# Altium schematic symbol library MyLibraryV2.SchLib: 572 symbols (part 9 of 11)
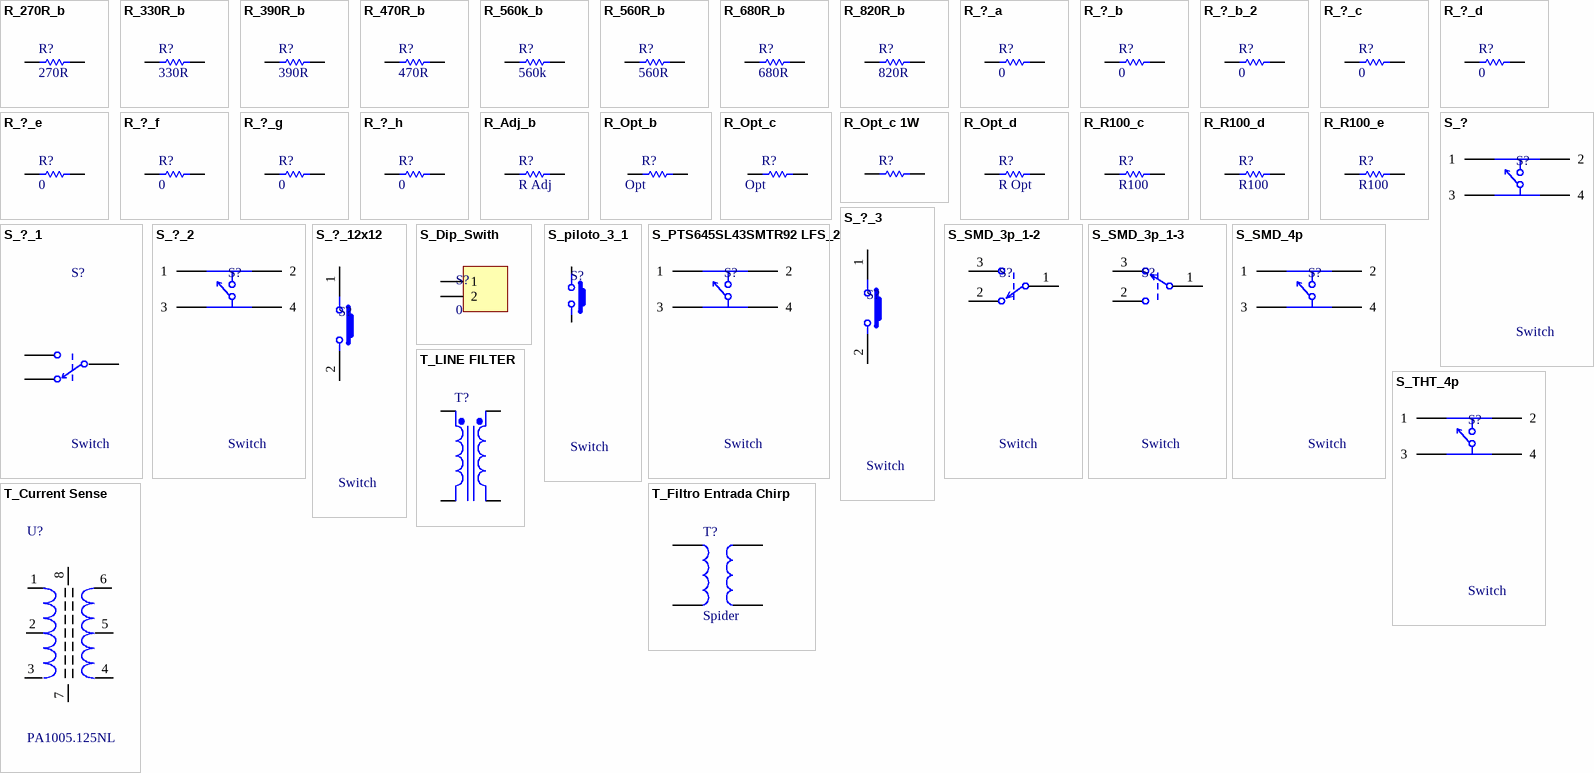
[diagram p24: symbols R_270R_b to T_LINE FILTER]

## R_?_b_2
designator R?, comment 0
(Generico)  Resistor SMD 0805; Value: 0
footprint R_0805_2012_a (Chip Resistor; Body 2.0 x 1.3 mm (LxW typ))
pins: 1, 2

## R_?_c
designator R?, comment 0
(Generico)  Resistor SMD 1206; Value: 0
footprint R_1206_3216_a
pins: 1, 2

## R_?_d
designator R?, comment 0
(Generico)  Resistor SMD 2512; Value: 0
footprint R_2512_6432_a
pins: 1, 2

## R_?_e
designator R?, comment 0
(Generico) Resistor SMD 2616; Value: 0
footprint R_2616_6740_a (Chip Resistor; Body 2.0 x 1.3 mm (LxW typ))
pins: 1, 2

## R_?_f
designator R?, comment 0
(Generico) Resistor AXIAL ASRM; Value: 0
footprint R_ASRM2
pins: 1, 2

## R_?_g
designator R?, comment 0
(Generico) Resistor SMD 2010; Value: 0
footprint R_2010_5025_a
pins: 1, 2

## R_?_h
designator R?, comment 0
Resistor SMD Trimmer; Value: 0
footprint R_Trimmer SMD
pins: 1, 2

## R_Adj_b
designator R?, comment R Adj
(Generico)  Resistor SMD 0805; Value: R Adj
footprint R_0805_2012_a (Chip Resistor; Body 2.0 x 1.3 mm (LxW typ))
pins: 1, 2

## R_Opt_b
designator R?, comment Opt
(Generico) Resistor SMD 0805; Value: Opt
footprint R_0805_2012_a (Chip Resistor; Body 2.0 x 1.3 mm (LxW typ))
pins: 1, 2

## R_Opt_c
designator R?, comment Opt
(Generico) Resistor SMD 1206; Value: Opt
footprint 3216[1206]
pins: 1, 2

## R_Opt_c 1W
designator R?, comment Opt 1W  (value not drawn)
(Generico) Resistor SMD; Value: Opt 1W
footprint 6432[2512]
pins: 1, 2

## R_Opt_d
designator R?, comment R Opt
Resistor SMD 2512 opcional; Value: R Opt
footprint R_2512_6432_a
pins: 1, 2

## R_R100_c
designator R?, comment R100
Resistor SMD 1206; Manufacturer: Eaton; Manufacturer Part Number: MFHA1206R1000FC; Supplier 1: Mouser; Supplier Part Number 1: 504-MFHA1206R1000FC; RoHS: No; Stock 1: 4353; Pricing 1: 1=0,12, 10=0,106, 50=0,106, 100=0,088, 1000=0,062, 10000=0,043 (USD); Value: R100
footprint R_1206_3216_a
pins: 1, 2

## R_R100_d
designator R?, comment R100
Resistor SMD 2512; Value: R100
footprint R_2512_6432_a
pins: 1, 2

## R_R100_e
designator R?, comment R100
Resistor SMD 2616; Manufacturer: TE Connectivity; Manufacturer Part Number: SMW2R10JT; Tolerance: 5%; Power Rating: 2W; Temperature Coefficient: 200ppm/°C; Voltage Rating: 300V; Insulation Resistance: 10GR; Number of Resistors: 1; Mounting Technology: Surface Mount; Case/Package: SMD/SMT; Case Code (Imperial): 2616; Case Code (Metric): 6740; Min Operating Temperature: -80°C; Max Operating Temperature: 280°C; Packaging: Tape and Reel; Resistor Type: Power resistor; Termination: Solder; Number of Terminations: 2; Series: SMW, CGS; Resistance Tolerance: 5%; Technology: WIRE WOUND; Features: Flame Retardant Coating; Max Power Dissipation: 2W; Operating Supply Voltage: 300V; Voltage Rating (AC): 300V; Length: 6.7mm; Width: 4mm; Height: 3.55mm; Depth: 4mm; Radiation Hardening: 5898YesNo; RoHS Compliant: Yes; Reach SVHC Compliant: No; ELV: Compliant; Military Standard: 4991MilitaryStandard; ComponentLink1URL: https://datasheet.ciiva.com/11812/0900766b809bea20-11812734.pdf?src-supplier=Rs; ComponentLink1Description: https://datasheet.ciiva.com/11812/0900766b809bea20-11812734.pdf?src-supplier=Rs; ComponentLink2URL: https://datasheet.ciiva.com/14090/wysm-data-e-14090891.pdf?src-supplier=Distrelec; ComponentLink2Description: https://datasheet.ciiva.com/14090/wysm-data-e-14090891.pdf?src-supplier=Distrelec; Supplier 1: Digikey; Supplier Part Number 1: A103604CT-ND; RoHS: Yes; Category: Chip SMD Resistors; Stock 1: 1522; Pricing 1: 1=0,58, 10=0,456, 25=0,4124, 50=0,371, 100=0,3064, 250=0,2886, 500=0,23362, 1000=0,18895 (USD); Value: R100
footprint R_2616_6740_a (Chip Resistor; Body 2.0 x 1.3 mm (LxW typ))
pins: 1, 2

## S_?
designator S?, comment Switch
(Generico) Switch THT; Value: Switch
footprint S_THT_4P
pins: 1, 2, 3, 4

## S_?_1
designator S?, comment Switch
(Generico) Switch  SMD; Value: Switch
footprint S_SMD_3p (2.0 x 1.3 mm (LxW typ))
pins: 1, 2, 3

## S_?_2
designator S?, comment Switch
(Generico) Switch SMD; Value: Switch
footprint S_SMD_SPST-NO (Pulsador SMD)
pins: 1, 2, 3, 4

## S_?_3
designator S?, comment Switch
(Generico) Switch SMD; Value: Switch
footprint S_SMD_SPST-NO (Pulsador SMD)
pins: 1, 2

## S_?_12x12
designator S?, comment Switch
(Generico) Switch SMD de 12mm x 12 mm; Value: Switch; Supplier 1: Digikey; Supplier Part Number 1: SW969-ND
footprint S_THT_SPST (Footprint del tactile switch de 12 x 12)
pins: 1, 2

## S_Dip_Swith
designator S?, comment 0
Value: 0
footprint S_DIP-SWITCH1X2 (Connector; Header; 2 Position)
pins: 1, 2

## S_piloto_3_1
designator S?, comment Switch
(Generico) Switch SMD; Value: Switch
footprint S_SMD_SPST-NO (Pulsador SMD)
pins: 1, 2

## S_PTS645SL43SMTR92 LFS_2
designator S?, comment Switch
(Generico) Switch SMD; Value: Switch
footprint S_SMD_SPST-NO (Pulsador SMD)
pins: 1, 2, 3, 4

## S_SMD_3p_1-2
designator S?, comment Switch
(Modificar) Switch  SMD; Value: Switch
footprint S_SMD_3p_1-2 (2.0 x 1.3 mm (LxW typ))
pins: 1, 2, 3

## S_SMD_3p_1-3
designator S?, comment Switch
(Modificar) Switch  SMD; Value: Switch
footprint S_SMD_3p_1-3 (2.0 x 1.3 mm (LxW typ))
pins: 1, 2, 3

## S_SMD_4p
designator S?, comment Switch
(Modificar) Switch SMD; Value: Switch
footprint S_THT_4P
pins: 1, 2, 3, 4

## S_THT_4p
designator S?, comment Switch
(Modificar) Switch THT; Manufacturer: ITT C&K; Manufacturer Part Number: PTS645SL43SMTR92LFS; Mechanical Life: 100000Cycles; Actuator Material: Nylon,Polyamide,PA66; Throw Configuration: SPST; Operating Force: 1.27N; Max Voltage Rating (DC): 12V; Contact Resistance: 100mR; Max Current Rating: 50mA; Illumination Type: Non-Illuminated; Switch Function: Off-Mom; Actuator Type: Standard; Actuator Length: 0.85mm; Mounting Technology: Surface Mount; Contact Material: Brass,Silver; Contact Plating: Silver; Color: Black; Min Operating Temperature: -20°C; Max Operating Temperature: 60°C; Packaging: Tape and Reel; Termination: Gull Wing; Voltage Rating (DC): 12V; Package Quantity: 1000; Current Rating: 50mA; Orientation: Straight; Series: PTS645; Length: 6mm; Depth: 9mm; Size: 6mm; Lead Free: Lead Free; RoHS Compliant: Yes; ComponentLink1URL: https://datasheet.ciiva.com/26927/getdatasheetpartid-774114-26927132.pdf?src-supplier=Verical; ComponentLink1Description: https://datasheet.ciiva.com/26927/getdatasheetpartid-774114-26927132.pdf?src-supplier=Verical; Supplier 1: Mouser; Supplier Part Number 1: 611-PTS645SL43SMTR92; RoHS: Yes; Category: Tactile Switches; Stock 1: 15419; Pricing 1: 1=0,19, 10=0,168, 50=0,168, 100=0,16, 1000=0,148, 10000=0,139 (USD); Value: Switch
footprint S_THT_4P
pins: 1, 2, 3, 4

## T_Current Sense
designator U?, comment PA1005.125NL
Inductor SMD Sensor Corriente; Manufacturer: Pulse; Turns Ratio: 1:125; Lead/Base Style: Gull Wing; Operating Frequency: 0.05 to 1 MHz; Mounting Technology: Surface Mount; Series: *; RoHS Compliant: Yes; ComponentLink1URL: http://productfinder.pulseeng.com/products/datasheets/SPM2007_58.pdf?src-supplier=Avnet; ComponentLink1Description: http://productfinder.pulseeng.com/products/datasheets/SPM2007_58.pdf?src-supplier=Avnet; ComponentLink2URL: https://datasheet.octopart.com/PA1005.125NL-Pulse-datasheet-147547437.pdf?src-supplier=Sager+Electronics; ComponentLink2Description: https://datasheet.octopart.com/PA1005.125NL-Pulse-datasheet-147547437.pdf?src-supplier=Sager+Electronics; Supplier 1: Mouser; Supplier Part Number 1: 673-PA1005.125NL; Manufacturer Part Number: PA1005.125NL; RoHS: Yes; Category: Transformers; Stock 1: 221; Pricing 1: 1=2, 10=1,35, 50=1,35, 100=1,35, 1000=1,11, 10000=1 (USD); Value: PA1005.125NL
footprint L_Sensor_Corriente (PA1005125NL)
pins: 1, 2, 3, 4, 5, 6, 7, 8

## T_Filtro Entrada Chirp
designator T?, comment Spider
(Modificar) Transformador filtro de línea fuente; Value: Spider
pins: 1, 2, 3, 4

## T_LINE FILTER
designator T?, comment LINE FILTER  (value not drawn)
(Modificar) Transformador (Coupled Inductor Model); Value: LINE FILTER
footprint L_THT_INDUCTOR-10X18 (1mH TOROIDAL)
pins: 1 Pri+, 2 Pri-, 3 Sec-, 4 Sec+

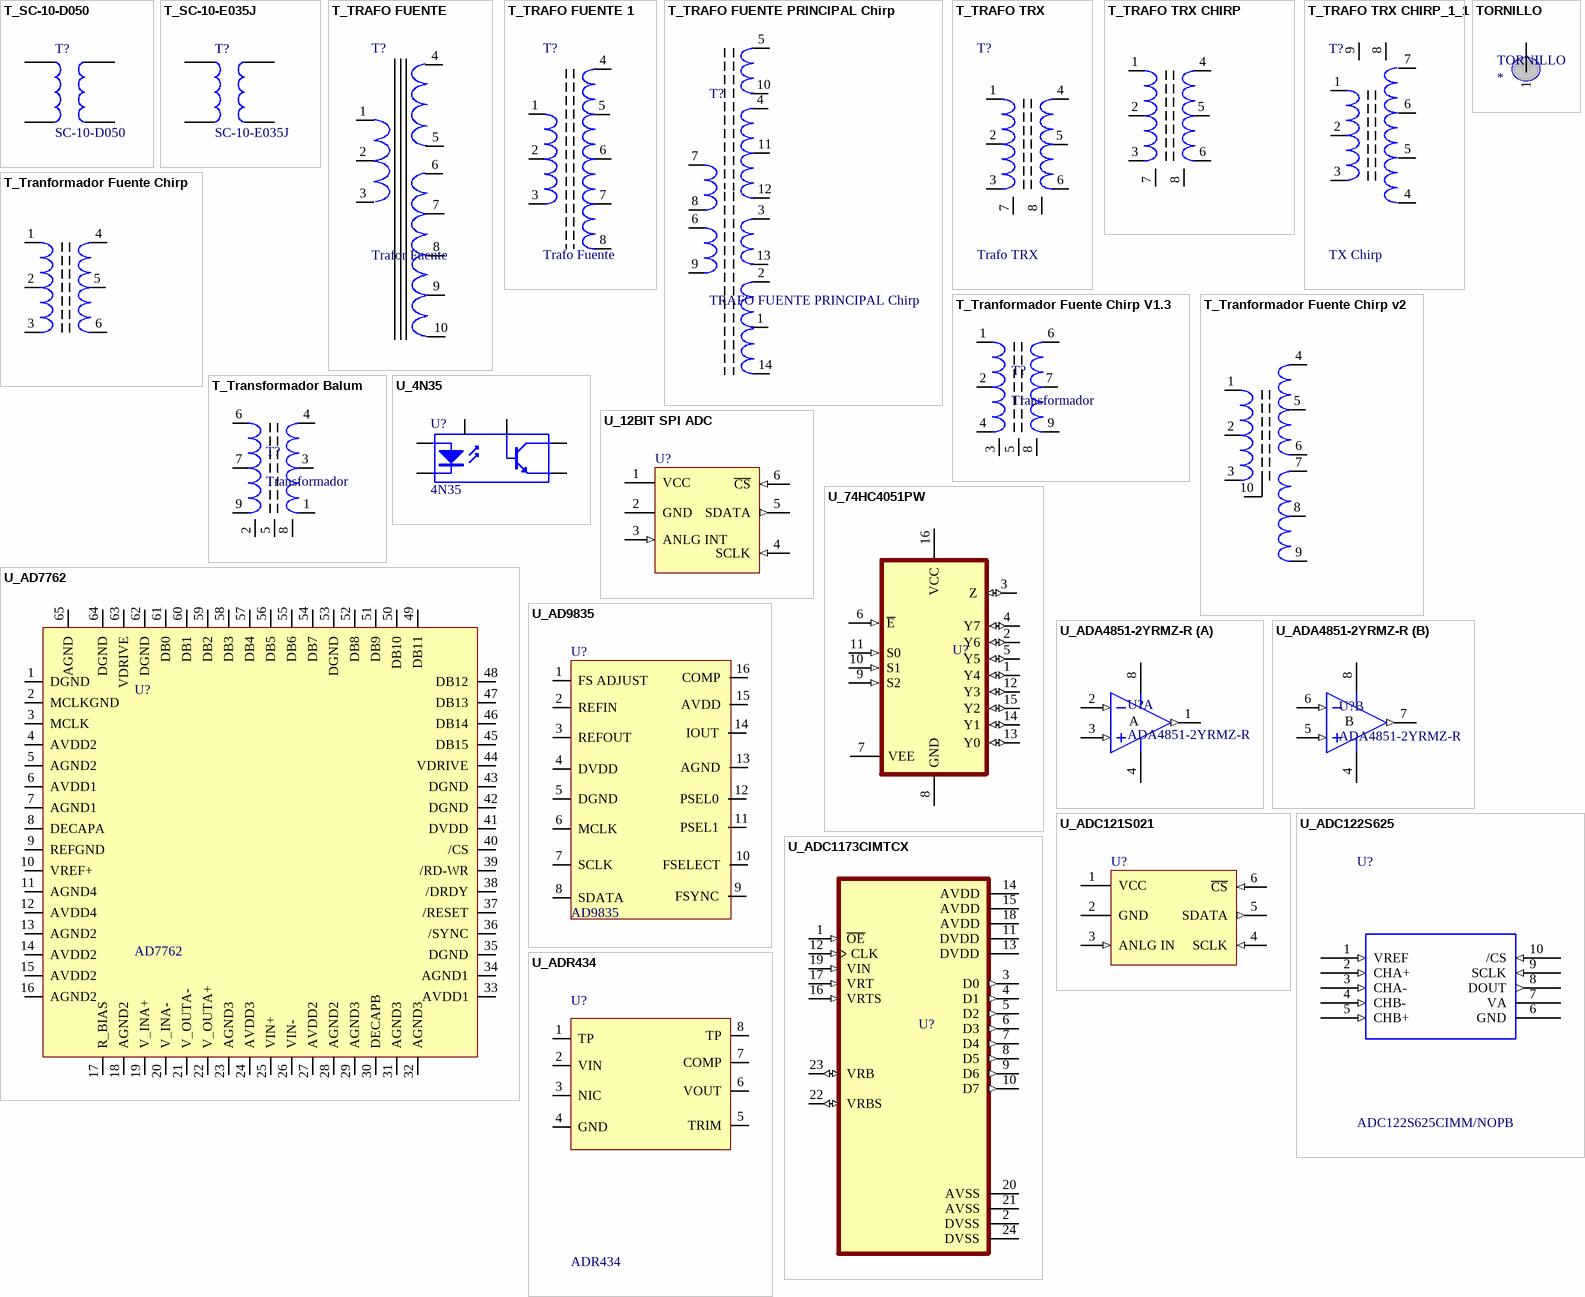
[diagram p11: symbols T_SC-10-D050 to U_ADR434]

## T_SC-10-D050
designator T?, comment SC-10-D050
(Modificar) Transformador filtro de línea fuente; Value: SC-10-D050
pins: 1, 2, 3, 4

## T_SC-10-E035J
designator T?, comment SC-10-E035J
Transformador filtro de línea fuente; Manufacturer: KEMET; Supplier 1: Mouser; Supplier Part Number 1: 80-SC-10-E035J; Manufacturer Part Number: SC-10-E035J; RoHS: Yes; Category: Common Mode Chokes; Stock 1: 213; Pricing 1: 1=3,01, 10=1,76, 50=1,76, 100=1,76, 1000=1,5, 10000=1,43 (USD); Value: SC-10-E035J
footprint Filtro_SC-10-E035J (Filtro de línea de fuente)
pins: 1, 2, 3, 4

## T_TRAFO FUENTE
designator T?, comment Trafor Fuente
(Modificar) Transformador; Value: Trafor Fuente
footprint TRAFO_RED (Footprint not found)
pins: 1, 2, 3, 4, 5, 6, 7, 8, 9, 10

## T_TRAFO FUENTE 1
designator T?, comment Trafo Fuente
(Modificar) Transformador; Value: Trafo Fuente
footprint TRAFO_RED (TRANSFORMADOR FUENTE)
pins: 1, 2, 3, 4, 5, 6, 7, 8

## T_TRAFO FUENTE PRINCIPAL Chirp
designator T?, comment TRAFO FUENTE PRINCIPAL Chirp
(Modificar) Transformador; Value: TRAFO FUENTE PRINCIPAL Chirp
footprint T_TRAFO FUENTE PRINCIPAL  Chirp (TRANSFORMADOR FUENTE)
pins: 1, 2, 3, 4, 5, 6, 7, 8, 9, 10, 11, 12, 13, 14

## T_TRAFO TRX
designator T?, comment Trafo TRX
(Modificar) Transformador; Value: Trafo TRX
footprint T_TrafoTX (Trafo)
pins: 1, 2, 3, 4, 5, 6, 7, 8

## T_TRAFO TRX CHIRP
designator T?, comment TX Chirp
(Modificar) Transformador TX Chirp; Value: TX Chirp
footprint T_TrafoTX Chirp (Transformador TX Chirp)
pins: 1, 2, 3, 4, 5, 6, 7, 8

## T_TRAFO TRX CHIRP_1_1
designator T?, comment TX Chirp
(Modificar) Transformador TX Chirp; Value: TX Chirp
footprint T_TrafoTX ChirpV1.3 (Transformador TX Chirp)
pins: 1, 2, 3, 4, 5, 6, 7, 8, 9

## T_Tranformador Fuente Chirp
designator T?, comment Tranformador Fuente Chirp
(Modificar) Transformador fuente de alimentación Chirp; Value: Tranformador Fuente Chirp
footprint T_EE3007-HORIZ-6 PIN CHIRP (Transformador fuente Chirp)
pins: 1, 2, 3, 4, 5, 6

## T_Tranformador Fuente Chirp V1.3
designator T?, comment Transformador
(Modificar) Transformador; Value: Transformador
footprint T_TRAFO_B65675
pins: 1, 2, 3, 4, 5, 6, 7, 8, 9

## T_Tranformador Fuente Chirp v2
designator T?, comment Tranformador Fuente Chirp v2
(Modificar) Transformador fuente de alimentación Chirp; Value: Tranformador Fuente Chirp v2
footprint T_EE3007-HORIZ-9 PIN CHIRP (Transformador fuente Chirp v2)
pins: 1, 2, 3, 4, 5, 6, 7, 8, 9, 10

## T_Transformador Balum
designator T?, comment Transformador
(Modificar) Transformador; Value: Transformador
footprint T_TRAFO_B65675
pins: 1, 2, 3, 4, 5, 6, 7, 8, 9

## TORNILLO
designator *  (value not drawn)
Value: TORNILLO
footprint TORNILLO SUJECCION
pins: 1

## U_4N35
designator U?, comment 4N35
(Modificar) Integrado; Value: 4N35
footprint SOIC 4N35
pins: 1 A "Anode", 2 K "Cathode", 3 NC "No connection Pin", 4 E "Emitter", 5 C "Collector", 6 B "Base"

## U_12BIT SPI ADC
designator U?, comment ADC121S021  (value not drawn)
(Modificar) Integrado; Value: ADC121S021
pins: 1 VCC (power), 2 GND (power), 3 ANLG INT (in), 4 SCLK (in), 5 SDATA (out), 6 ~{CS} (in)

## U_74HC4051PW
designator U?, comment 74HC4051  (value not drawn)
(Modificar) Integrado; Value: 74HC4051
pins: 1 Y4 (io), 2 Y6 (io), 3 Z (io), 4 Y7 (io), 5 Y5 (io), 6 ~{E} (in), 7 VEE (power), 8 GND, 9 S2 (in), 10 S1 (in), 11 S0 (in), 12 Y3 (io), 13 Y0 (io), 14 Y1 (io), 15 Y2 (io), 16 VCC (power)

## U_AD7762
designator U?, comment AD7762
(Modificar) Integrado; Value: AD7762
pins: 1 DGND, 2 MCLKGND, 3 MCLK, 4 AVDD2, 5 AGND2, 6 AVDD1, 7 AGND1, 8 DECAPA, 9 REFGND, 10 VREF+, 11 AGND4, 12 AVDD4, 13 AGND2, 14 AVDD2, 15 AVDD2, 16 AGND2, 17 R_BIAS, 18 AGND2, 19 V_INA+, 20 V_INA-, 21 V_OUTA-, 22 V_OUTA+, 23 AGND3, 24 AVDD3, 25 VIN+, 26 VIN-, 27 AVDD2, 28 AGND2, 29 AGND3, 30 DECAPB, 31 AGND3, 32 AGND3, 33 AVDD1, 34 AGND1, 35 DGND, 36 /SYNC, 37 /RESET, 38 /DRDY, 39 /RD-WR, 40 /CS, 41 DVDD, 42 DGND, 43 DGND, 44 VDRIVE, 45 DB15, 46 DB14, 47 DB13, 48 DB12, 49 DB11, 50 DB10, 51 DB9, 52 DB8, 53 DGND, 54 DB7, 55 DB6, 56 DB5, 57 DB4, 58 DB3, 59 DB2, 60 DB1, 61 DB0, 62 DGND, 63 VDRIVE, 64 DGND, 65 AGND

## U_AD9835
designator U?, comment AD9835
(Modificar) Integrado; Value: AD9835
pins: 1 FS ADJUST, 2 REFIN, 3 REFOUT, 4 DVDD, 5 DGND, 6 MCLK, 7 SCLK, 8 SDATA, 9 FSYNC, 10 FSELECT, 11 PSEL1, 12 PSEL0, 13 AGND, 14 IOUT, 15 AVDD, 16 COMP

## U_ADA4851-2YRMZ-R
designator U?, comment ADA4851-2YRMZ-R
Op Amp Dual High Speed Amplifier R-R O/P ±6V/12V Automotive 8-Pin MSOP T/R; Manufacturer: Analog Devices; Manufacturer Part Number: ADA4851-2YRMZ-RL7; Min Supply Voltage: 2.7V; Max Supply Voltage: 12V; Min Dual Supply Voltage: 1.35V; Max Dual Supply Voltage: 6V; Voltage Gain: 107dB; Common Mode Rejection Ratio: 105dB; Output Current: 5mA; -3db Bandwidth: 105MHz; Slew Rate: 375V/µs; Number of Circuits: 2; Input Bias Current: 2.2uA; Input Offset Voltage (Vos): 3.5mV; Operating Supply Current: 6.4mA; Output Current per Channel: 83mA; Gain Bandwidth Product: 70MHz; Power Supply Rejection Ratio (PSRR): 101dB; Settling Time: 55ns; Quiescent Current: 3.2mA; Input Capacitance: 1.4pF; Case/Package: MSOP; Pins: 8; Min Operating Temperature: -40°C; Max Operating Temperature: 125°C; Packaging: Tape and Reel; Package Quantity: 1000; Number of Channels: 2; Number of Elements: 2; Number of Amplifiers: 2; Series: -; Supply Current: 6.4mA; Radiation Hardening: No; Lead Free: Contains Lead; RoHS Compliant: Yes; ComponentLink1URL: https://datasheet.ciiva.com/2974/ada4851-1-4851-2-4851-4-2974782.pdf?src-supplier=Avnet; ComponentLink1Description: https://datasheet.ciiva.com/2974/ada4851-1-4851-2-4851-4-2974782.pdf?src-supplier=Avnet; Supplier 1: Mouser; Supplier Part Number 1: 584-ADA4851-2YRMZ-R7; RoHS: Yes; Category: Amplifiers - Op Amps, Buffer, Instrumentation; Stock 1: 935; Pricing 1: 1=2,67, 10=2,28, 50=2,28, 100=1,84, 1000=1,37, 10000=1,23 (USD); Value: ADA4851-2YRMZ-R
footprint U_TSSOP-8_MSOP-8_LM3488MM (Step Up 100V)
part A pins: 1 OUT1 (out), 2 IN1- (in), 3 IN1+ (in), 4 Vs- (power), 8 Vs+ (power)
part B pins: 4 Vs- (power), 5 IN2+ (in), 6 IN2- (in), 7 OUT2 (out), 8 Vs+ (power)
part A text: A
part B text: B

## U_ADC121S021
designator U?, comment ADC121S021  (value not drawn)
12 Bit Analog to Digital Converter 1 Input 1 SAR SOT-23-6; Manufacturer: TI National Semiconductor; Manufacturer Part Number: ADC121S021CIMFX/NOPB; Number of Bits: 12; Power Consumption: 1.5mW; Max Supply Voltage: 5.25V; Min Supply Voltage: 2.7V; Interface: SPI,Serial; Sampling Rate: 200000S/s; Number of Converters: 1; Resolution: 12b; Polarity: Unipolar; Integral Nonlinearity (INL): 1LSB; Value: ADC121S021; Mounting Technology: Surface Mount; Case/Package: SOT-23-6; Pins: 6; Min Operating Temperature: -40°C; Max Operating Temperature: 85°C; Packaging: Tape and Reel; Number of Inputs: 1; Number of A/D Converters: 1; Number of Elements: 1; Series: -; Lead Free: Lead Free; RoHS Compliant: Yes; ComponentLink1URL: https://datasheet.ciiva.com/29654/adc121s021-29654261.pdf?src-supplier=Digikey; ComponentLink1Description: https://datasheet.ciiva.com/29654/adc121s021-29654261.pdf?src-supplier=Digikey; ComponentLink2URL: https://datasheet.ciiva.com/6662/adc121s021-6662749.pdf?src-supplier=Digikey; ComponentLink2Description: https://datasheet.ciiva.com/6662/adc121s021-6662749.pdf?src-supplier=Digikey; Supplier 1: Mouser; Supplier Part Number 1: 926-A121S021CIMFXNPB; RoHS: Yes; Category: Analog to Digital Converters (ADCs); Stock 1: 13161; Pricing 1: 1=1,61, 10=1,37, 50=1,37, 100=1,17, 1000=0,963, 10000=0,948 (USD)
footprint U_SOT-23-6 -TLV2472
pins: 1 VCC (power), 2 GND (power), 3 ANLG IN (in), 4 SCLK (in), 5 SDATA (out), 6 ~{CS} (in)

## U_ADC122S625
designator U?, comment ADC122S625CIMM/NOPB
ADC SPI; Manufacturer: TI National Semiconductor; Interface: SPI,Serial; Max Power Dissipation: 11mW; Operating Supply Voltage: 5V; Min Supply Voltage: 4.5V; Max Supply Voltage: 5.5V; Number of Converters: 2; Resolution: 12b; Number of Bits: 12; Sampling Rate: 200KS/s; Polarity: Bipolar; Supply Type: Single; Integral Nonlinearity (INL): 1LSB; Nominal Supply Current: 1.7mA; Power Consumption: 8.6mW; Mounting Technology: Surface Mount; Case/Package: VSSOP; Pins: 10; Min Operating Temperature: -40°C; Max Operating Temperature: 105°C; Packaging: Tape and Reel; Number of A/D Converters: 2; Number of Elements: 2; Number of Inputs: 2; Length: 3mm; Width: 3mm; Height: 0.86mm; Reach SVHC Compliant: No; Lead Free: Lead Free; RoHS Compliant: Yes; ComponentLink1URL: https://datasheet.ciiva.com/6664/adc122s625-6664385.pdf?src-supplier=Digikey; ComponentLink1Description: https://datasheet.ciiva.com/6664/adc122s625-6664385.pdf?src-supplier=Digikey; ComponentLink2URL: https://datasheet.ciiva.com/41460/001186664-da-01-en-ic-adc-2-adc122s625cimm-nopb-msop-10-tid-41460965.pdf?src-supplier=Conrad; ComponentLink2Description: https://datasheet.ciiva.com/41460/001186664-da-01-en-ic-adc-2-adc122s625cimm-nopb-msop-10-tid-41460965.pdf?src-supplier=Conrad; Supplier 1: Mouser; Supplier Part Number 1: 926-AD122S625CIMMNPB; Manufacturer Part Number: ADC122S625CIMM/NOPB; RoHS: Yes; Category: Analog to Digital Converters (ADCs); Stock 1: 2088; Pricing 1: 1=8,71, 10=7,88, 50=7,51, 100=6,52, 1000=4,94, 10000=4,94 (USD); Value: ADC122S625CIMM/NOPB
footprint U_MSOP-10_MSE
pins: 1 VREF (in), 2 CHA+ (in), 3 CHA- (in), 4 CHB- (in), 5 CHB+ (in), 6 GND (power), 7 VA (power), 8 DOUT (out), 9 SCLK (in), 10 /CS (in)

## U_ADC1173CIMTCX
designator U?, comment ADC1173  (value not drawn)
(Modificar) Integrado; Value: ADC1173
pins: 1 ~{OE} (in), 2 DVSS (power), 3 D0 (out), 4 D1 (out), 5 D2 (out), 6 D3 (out), 7 D4 (out), 8 D5 (out), 9 D6 (out), 10 D7 (out), 11 DVDD (power), 12 CLK (in), 13 DVDD (power), 14 AVDD (power), 15 AVDD (power), 16 VRTS (in), 17 VRT (in), 18 AVDD (power), 19 VIN (in), 20 AVSS (power), 21 AVSS (power), 22 VRBS (io), 23 VRB (io), 24 DVSS (power)

## U_ADR434
designator U?, comment ADR434
(Modificar) Integrado; Value: ADR434
pins: 1 TP, 2 VIN, 3 NIC, 4 GND, 5 TRIM, 6 VOUT, 7 COMP, 8 TP

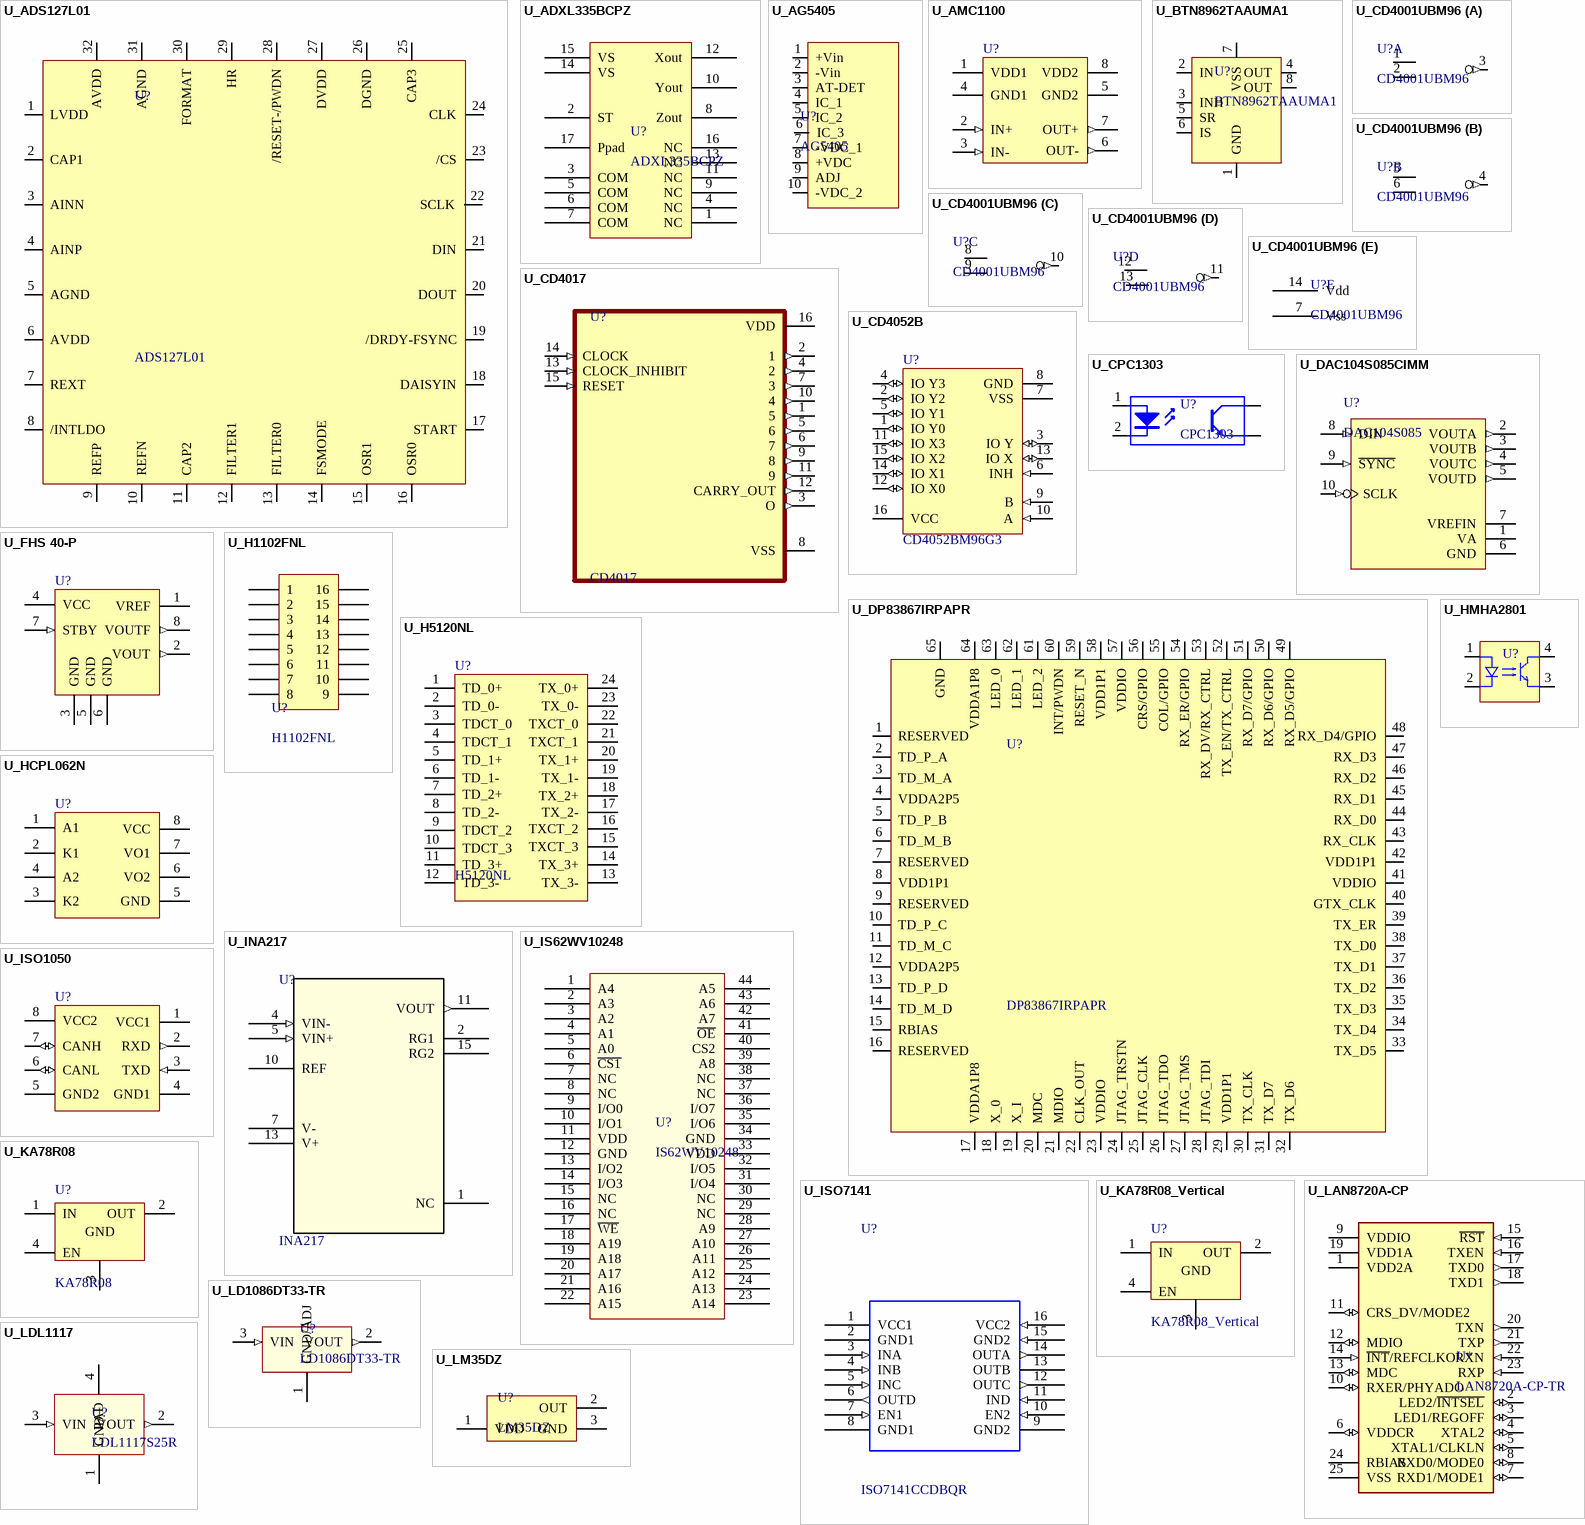
[diagram p12: symbols U_ADS127L01 to U_LM35DZ]

## U_ADS127L01
designator U?, comment ADS127L01
(Modificar) Integrado; Value: ADS127L01
pins: 1 LVDD, 2 CAP1, 3 AINN, 4 AINP, 5 AGND, 6 AVDD, 7 REXT, 8 /INTLDO, 9 REFP, 10 REFN, 11 CAP2, 12 FILTER1, 13 FILTER0, 14 FSMODE, 15 OSR1, 16 OSR0, 17 START, 18 DAISYIN, 19 /DRDY-FSYNC, 20 DOUT, 21 DIN, 22 SCLK, 23 /CS, 24 CLK, 25 CAP3, 26 DGND, 27 DVDD, 28 /RESET-/PWDN, 29 HR, 30 FORMAT, 31 AGND, 32 AVDD

## U_ADXL335BCPZ
designator U?, comment ADXL335BCPZ
Analog Devices - ADXL335BCPZ - Mems Accelerometer, 3-AXIS, Analogue, X, Y, Z, ± 3G, 1.8 V, 3.6 V, Lfcsp; Sensitivity: 300mV/g; Min Supply Voltage: 1.8V; Max Supply Voltage: 3.6V; Bandwidth: 550Hz; -3db Bandwidth: 1.6kHz; Nominal Supply Current: 350uA; Axis: X, Y, Z; Case/Package: LFCSP EP; Pins: 16; Contact Plating: Tin,Matte; Min Operating Temperature: -40°C; Max Operating Temperature: 85°C; Package Quantity: 490; Series: -; Packaging: Tray; Operating Supply Current: 350uA; Output Type: Analog; Supply Current: 350uA; Output: ANALOG; Length: 4mm; Width: 4mm; Height: 1.43mm; Depth: 4mm; Radiation Hardening: No; Lead Free: Contains Lead; RoHS Compliant: Yes; Reach SVHC Compliant: No; ComponentLink1URL: https://datasheet.ciiva.com/14184/adxl335-eng-tds-14184011.pdf?src-supplier=Distrelec; ComponentLink1Description: https://datasheet.ciiva.com/14184/adxl335-eng-tds-14184011.pdf?src-supplier=Distrelec; ComponentLink2URL: https://datasheet.ciiva.com/15099/getdatasheetpartid-257946-15099679.pdf?src-supplier=Verical; ComponentLink2Description: https://datasheet.ciiva.com/15099/getdatasheetpartid-257946-15099679.pdf?src-supplier=Verical; ComponentLink3URL: https://datasheet.ciiva.com/1165/1512959-1165506.pdf?src-supplier=Element14; ComponentLink3Description: https://datasheet.ciiva.com/1165/1512959-1165506.pdf?src-supplier=Element14; ComponentLink4URL: https://datasheet.ciiva.com/2809/adxl335-2809948.pdf?src-supplier=Digikey; ComponentLink4Description: https://datasheet.ciiva.com/2809/adxl335-2809948.pdf?src-supplier=Digikey; ComponentLink5URL: https://datasheet.ciiva.com/3271/adxl335-3271526.pdf?src-supplier=Avnet; ComponentLink5Description: https://datasheet.ciiva.com/3271/adxl335-3271526.pdf?src-supplier=Avnet; Supplier 1: Mouser; Supplier Part Number 1: 584-ADXL335BCPZ; Manufacturer: Analog Devices; Manufacturer Part Number: ADXL335BCPZ; RoHS: Yes; Category: Accelerometers; Stock 1: 1592; Pricing 1: 1=8,23, 10=5,35, 50=5,35, 100=5,32, 1000=4,67, 10000=4,67 (USD); Value: ADXL335BCPZ
footprint U_VQFN-16_b
pins: 1 NC, 2 ST, 3 COM, 4 NC, 5 COM, 6 COM, 7 COM, 8 Zout, 9 NC, 10 Yout, 11 NC, 12 Xout, 13 NC, 14 VS, 15 VS, 16 NC, 17 Ppad

## U_AG5405
designator U?, comment AG5405
High Efficiency PoE PD Module IEEE802.3at, 5V, 30W output. SIL package.; Manufacturer: Silvertel; Value: AG5405; Supplier 1: Digikey; Supplier Part Number 1: 5061-AG5405-ND; Manufacturer Part Number: AG5405; RoHS: No; Category: Board Mount Modules; Stock 1: 1983; Pricing 1: 1=18,99, 10=18,6, 25=18,5, 40=17,5, 520=17,00004, 1040=16,48008 (USD)
footprint U_AG5405
pins: 1 +Vin, 2 -Vin, 3 AT-DET, 4 IC_1, 5 IC_2, 6 IC_3, 7 -VDC_1, 8 +VDC, 9 ADJ, 10 -VDC_2

## U_AMC1100
designator U?, comment AMC1100  (value not drawn)
±250 mV-Input, Low-Cost Basic Isolated Amplifier for Current Sensing 8-SOIC -40 to 105; Manufacturer: Texas Instruments; Manufacturer Part Number: AMC1100DWVR; Min Supply Voltage: 2.7V; Max Supply Voltage: 5.5V; Common Mode Rejection Ratio: 108dB; Value: AMC1100; Mounting Technology: Surface Mount; Contact Plating: Tin; Min Operating Temperature: -40°C; Max Operating Temperature: 105°C; Lead Free: Lead Free; RoHS Compliant: Yes; ComponentLink1URL: http://www.ti.com/general/docs/suppproductinfo.tsp?distId=10&amp;gotoUrl=http%3A%2F%2Fwww.ti.com%2Flit%2Fgpn%2Famc1100&src-supplier=Digikey; ComponentLink1Description: http://www.ti.com/general/docs/suppproductinfo.tsp?distId=10&amp;gotoUrl=http%3A%2F%2Fwww.ti.com%2Flit%2Fgpn%2Famc1100&src-supplier=Digikey; ComponentLink2URL: http://www.ti.com/lit/pdf/ssiy005?src-supplier=Digikey; ComponentLink2Description: http://www.ti.com/lit/pdf/ssiy005?src-supplier=Digikey; ComponentLink3URL: http://www.ti.com/general/docs/lit/getliterature.tsp?genericPartNumber=AMC1100&&fileType=pdf&src-supplier=Avnet; ComponentLink3Description: http://www.ti.com/general/docs/lit/getliterature.tsp?genericPartNumber=AMC1100&&fileType=pdf&src-supplier=Avnet; ComponentLink4URL: http://www.ti.com/lit/gpn/amc1100?src-supplier=Mouser; ComponentLink4Description: http://www.ti.com/lit/gpn/amc1100?src-supplier=Mouser; Supplier 1: Mouser; Supplier Part Number 1: 595-AMC1100DWVR; RoHS: Yes; Category: Amplifiers - Op Amps, Buffer, Instrumentation; Stock 1: 990; Pricing 1: 1=4,8, 10=4,16, 50=4,16, 100=3,53, 1000=2,33, 10000=2,21 (USD)
footprint U_SOIC-8_2 (SOIC, 8-Leads, Body 4.9x3.9mm, Pitch 1.27mm, IPC Low Density)
pins: 1 VDD1 (power), 2 IN+ (in), 3 IN- (in), 4 GND1 (power), 5 GND2 (power), 6 OUT- (out), 7 OUT+ (out), 8 VDD2 (power)

## U_BTN8962TAAUMA1
designator U?, comment BTN8962TAAUMA1
H-Bridge Motor Driver Automotive 8-Pin(7+Tab) D2PAK T/R; Manufacturer: Infineon; Output Current: 42A; Quiescent Current: 7uA; Number of Outputs: 1; Value: BTN8962TAAUMA1; Mounting Technology: Surface Mount; Case/Package: TO-263-7; Pins: 7; Packaging: Tape and Reel; Halogen Free: Halogen Free; Reach SVHC Compliant: Yes; Supplier 1: Digikey; Supplier Part Number 1: BTN8962TAAUMA1INCT-ND; Manufacturer Part Number: BTN8962TA; RoHS: No; Stock 1: 11648; Pricing 1: 1=5,84, 10=5,248, 25=4,9616, 100=4,3, 250=4,07948, 500=3,66052 (USD)
footprint U_TO-263-8_B
pins: 1 GND, 2 IN, 3 INH, 4 OUT, 5 SR, 6 IS, 7 VSS, 8 OUT

## U_CD4001UBM96
designator U?, comment CD4001UBM96
4-ch, 2-input, 3-V to 18-V NOR gates 14-SOIC -55 to 125; Manufacturer: Texas Instruments; Propagation Delay: 50ns; Max Supply Voltage: 18V; Min Supply Voltage: 3V; Number of Outputs: 1; Number of Inputs: 2; Number of Circuits: 4; Quiescent Current: 1uA; High Level Output Current: 3.4mA; Low Level Output Current: 1.5mA; Output Current: 6.8mA; Mounting Technology: Surface Mount; Case/Package: SOIC; Pins: 14; Weight: 0.004564oz; Contact Plating: Gold; Min Operating Temperature: -55°C; Max Operating Temperature: 125°C; Packaging: Tape and Reel; Logic Function: NOR GATE; Package Quantity: 2500; Number of Gates: 4; Number of Elements: 4; Series: 4000B; Technology: CMOS; Number of Input Lines: 2; Number of Output Lines: 1; Turn-On Delay Time: 50ns; Number of Bits: 4; Lead Free: Lead Free; RoHS Compliant: Yes; ComponentLink1URL: https://datasheet.ciiva.com/1872/cd4001b-1872756.pdf?src-supplier=Digikey; ComponentLink1Description: https://datasheet.ciiva.com/1872/cd4001b-1872756.pdf?src-supplier=Digikey; ComponentLink2URL: https://datasheet.ciiva.com/14308/cd4001ub-14308058.pdf?src-supplier=Avnet; ComponentLink2Description: https://datasheet.ciiva.com/14308/cd4001ub-14308058.pdf?src-supplier=Avnet; Supplier 1: Mouser; Supplier Part Number 1: 595-CD4001UBM96; Manufacturer Part Number: CD4001UBM96; RoHS: Yes; Category: Logic Gates; Stock 1: 2105; Pricing 1: 1=0,63, 10=0,506, 50=0,506, 100=0,376, 1000=0,246, 10000=0,194 (USD); Value: CD4001UBM96
footprint U_DO-14_N (SOIC, 14-Leads, Body 8.7x3.9mm, Pitch 1.27mm, IPC Medium Density)
part A pins: 1 A, 2 B, 3 J (out)
part B pins: 4 K (out), 5 C, 6 D
part C pins: 8 E, 9 F, 10 L (out)
part D pins: 11 M (out), 12 G, 13 H
part E pins: 7 Vss, 14 Vdd

## U_CD4017
designator U?, comment CD4017
DECADE COUNTER 10BIT SMD SOIC-16 (OK); Manufacturer: Skyworks Solutions; Manufacturer Part Number: SI8234BB-D-IS1R; RoHS Compliant: Yes; Supplier 1: Mouser; Supplier Part Number 1: 634-SI8234BB-D-IS1R; RoHS: Yes; Category: Uncategorized; Stock 1: 15477; Pricing 1: 1=5,27, 10=4,47, 50=4,47, 100=3,88, 1000=2,79, 10000=2,64 (USD); Value: CD4017
footprint U_SOIC-16 (SOIC-16)
pins: 1 5 (out), 2 1 (out), 3 O (out), 4 2 (out), 5 6 (out), 6 7 (out), 7 3 (out), 8 VSS (power), 9 8 (out), 10 4 (out), 11 9 (out), 12 CARRY_OUT (out), 13 CLOCK_INHIBIT (in), 14 CLOCK (in), 15 RESET (in), 16 VDD (power)

## U_CD4052B
designator U?, comment CD4052BM96G3
20-V, 4: 1, 2-channel general-purpose multiplexer 16-SOIC -55 to 125; Manufacturer: Texas Instruments; Min Supply Voltage: 3V; Max Supply Voltage: 20V; Number of Inputs: 8; Number of Outputs: 2; Bandwidth: 25MHz; Propagation Delay: 30ns; Min Dual Supply Voltage: 2.5V; Max Dual Supply Voltage: 9V; Logic Function: Multiplexer,Demultiplexer; On-State Resistance: 240R; Operating Supply Current: 80nA; Supply Type: Single,Dual; Number of Bits: 4; Operating Supply Voltage: 18V; Mounting Technology: Surface Mount; Case/Package: SOIC; Pins: 16; Contact Plating: Tin,Matte; Min Operating Temperature: -55°C; Max Operating Temperature: 125°C; Package Quantity: 1; Packaging: Tape and Reel; Number of Channels: 2; Number of Circuits: 2; Series: 4000B; Supply Current: 80nA; Radiation Hardening: No; Reach SVHC Compliant: No; Lead Free: Lead Free; RoHS Compliant: Yes; ComponentLink1URL: https://datasheet.ciiva.com/15127/getdatasheetpartid-301725-15127667.pdf?src-supplier=Verical; ComponentLink1Description: https://datasheet.ciiva.com/15127/getdatasheetpartid-301725-15127667.pdf?src-supplier=Verical; ComponentLink2URL: https://datasheet.ciiva.com/1514/1874777-1514371.pdf?src-supplier=Element14; ComponentLink2Description: https://datasheet.ciiva.com/1514/1874777-1514371.pdf?src-supplier=Element14; ComponentLink3URL: https://datasheet.ciiva.com/1171/1849886-1171298.pdf?src-supplier=Element14; ComponentLink3Description: https://datasheet.ciiva.com/1171/1849886-1171298.pdf?src-supplier=Element14; Supplier 1: Mouser; Supplier Part Number 1: 595-CD4052BM96G3; Manufacturer Part Number: CD4052BM96G3; RoHS: Yes; Category: Interface ICs; Stock 1: 6263; Pricing 1: 1=0,75, 10=0,62, 50=0,62, 100=0,47, 1000=0,32, 10000=0,26 (USD); Value: CD4052BM96G3
footprint U_DO-16
pins: 1 IO Y0 (io), 2 IO Y2 (io), 3 IO Y (io), 4 IO Y3 (io), 5 IO Y1 (io), 6 INH (in), 7 VSS (power), 8 GND (power), 9 B (in), 10 A (in), 11 IO X3 (io), 12 IO X0 (io), 13 IO X (io), 14 IO X1 (io), 15 IO X2 (io), 16 VCC (power)

## U_CPC1303
designator U?, comment CPC1303
Optoacoplador SMD 4-pin; Manufacturer: IXYS; Manufacturer Part Number: CPC1303GRTR; Reverse Breakdown Voltage: 5V; Forward Current: 50mA; Number of Channels: 1; Output Voltage: 30V; Power Dissipation: 150mW; Collector Emitter Saturation Voltage: 500mV; Current Transfer Ratio: 2500%; Input Type: DC; Mounting Technology: Surface Mount; Case/Package: SMD/SMT; Pins: 4; Min Operating Temperature: -40°C; Max Operating Temperature: 85°C; Packaging: Tape and Reel; Package Quantity: 1000; Number of Elements: 1; Series: CPC1303; Collector-emitter Voltage-Max: 500mV; Lead Free: Lead Free; RoHS Compliant: Yes; ComponentLink1URL: https://datasheet.ciiva.com/6573/cpc1303-6573866.pdf?src-supplier=Digikey; ComponentLink1Description: https://datasheet.ciiva.com/6573/cpc1303-6573866.pdf?src-supplier=Digikey; ComponentLink2URL: https://datasheet.ciiva.com/24014/cpc1303-24014089.pdf?src-supplier=Mouser; ComponentLink2Description: https://datasheet.ciiva.com/24014/cpc1303-24014089.pdf?src-supplier=Mouser; Supplier 1: Mouser; Supplier Part Number 1: 849-CPC1303GRTR; RoHS: Yes; Category: Optocouplers; Stock 1: 1000; Pricing 1: 1=1,81, 10=1,21, 50=1,21, 100=0,931, 1000=0,662, 10000=0,646 (USD); Value: CPC1303
footprint U_OPTO SMD
pins: 1 A "Anode", 2 K "Cathode", 3 E "Emitter", 4 C "Collector"

## U_DAC104S085CIMM
designator U?, comment DAC104S085
DAC SMD TSSOP-10 (OK); Manufacturer: TI National Semiconductor; Manufacturer Part Number: DAC104S085CIMM/NOPB; Number of DAC Channels: 4; Interface: SPI; Max Supply Voltage: 5.5V; Min Supply Voltage: 2.7V; Settling Time: 6us; Number of Bits: 10; Resolution: 10b; Integral Nonlinearity (INL): 2LSB; Power Consumption: 1.1mW; Output Type: Voltage; Supply Current: 500uA; Differential Output: No; Mounting Technology: Surface Mount; Case/Package: VSSOP; Pins: 10; Min Operating Temperature: -40°C; Max Operating Temperature: 105°C; Packaging: Tape and Reel; Number of Channels: 4; Series: -; Number of D/A Converters: 4; Reach SVHC Compliant: No; Lead Free: Lead Free; RoHS Compliant: Yes; ComponentLink1URL: http://components.arrow.com/part/dataview/53786082S9096465N1317?src-supplier=Arrow+Electronics; ComponentLink1Description: http://components.arrow.com/part/dataview/53786082S9096465N1317?src-supplier=Arrow+Electronics; Supplier 1: Mouser; Supplier Part Number 1: 926-DA104S085CIMMNPB; RoHS: Yes; Category: Digital to Analog Converters (DACs); Stock 1: 2458; Pricing 1: 1=5,91, 10=5,02, 50=5,02, 100=4,35, 1000=3,12, 10000=3,03 (USD); Value: DAC104S085
footprint U_TSSOP-10 (TSSOP, 10-Leads, Body 3x3mm, Pitch 0.5mm, IPC High Density)
pins: 1 VA (power), 2 VOUTA (out), 3 VOUTB (out), 4 VOUTC (out), 5 VOUTD (out), 6 GND (power), 7 VREFIN (power), 8 DIN (in), 9 ~{SYNC} (in), 10 SCLK (in)

## U_DP83867IRPAPR
designator U?, comment DP83867IRPAPR
(Modificar) Integrado; Value: DP83867IRPAPR
pins: 1 RESERVED, 2 TD_P_A, 3 TD_M_A, 4 VDDA2P5, 5 TD_P_B, 6 TD_M_B, 7 RESERVED, 8 VDD1P1, 9 RESERVED, 10 TD_P_C, 11 TD_M_C, 12 VDDA2P5, 13 TD_P_D, 14 TD_M_D, 15 RBIAS, 16 RESERVED, 17 VDDA1P8, 18 X_0, 19 X_I, 20 MDC, 21 MDIO, 22 CLK_OUT, 23 VDDIO, 24 JTAG_TRSTN, 25 JTAG_CLK, 26 JTAG_TDO, 27 JTAG_TMS, 28 JTAG_TDI, 29 VDD1P1, 30 TX_CLK, 31 TX_D7, 32 TX_D6, 33 TX_D5, 34 TX_D4, 35 TX_D3, 36 TX_D2, 37 TX_D1, 38 TX_D0, 39 TX_ER, 40 GTX_CLK, 41 VDDIO, 42 VDD1P1, 43 RX_CLK, 44 RX_D0, 45 RX_D1, 46 RX_D2, 47 RX_D3, 48 RX_D4/GPIO, 49 RX_D5/GPIO, 50 RX_D6/GPIO, 51 RX_D7/GPIO, 52 TX_EN/TX_CTRL, 53 RX_DV/RX_CTRL, 54 RX_ER/GPIO, 55 COL/GPIO, 56 CRS/GPIO, 57 VDDIO, 58 VDD1P1, 59 RESET_N, 60 INT/PWDN, 61 LED_2, 62 LED_1, 63 LED_0, 64 VDDA1P8, 65 GND

## U_FHS 40-P
designator U?, comment FHS 40-P  (value not drawn)
(Modificar) Integrado; ComponentLink1Description: Manufacturer Link; ComponentLink1URL: http://www.ti.com/; Value: FHS 40-P
pins: 1 VREF (power), 2 VOUT (out), 3 GND (power), 4 VCC (power), 5 GND (power), 6 GND (power), 7 STBY (in), 8 VOUTF (out)

## U_H1102FNL
designator U?, comment H1102FNL
Value: H1102FNL
footprint U_DW-016
pins: 1, 2, 3, 4, 5, 6, 7, 8, 9, 10, 11, 12, 13, 14, 15, 16

## U_H5120NL
designator U?, comment H5120NL
(Modificar) Integrado; Value: H5120NL
pins: 1 TD_0+, 2 TD_0-, 3 TDCT_0, 4 TDCT_1, 5 TD_1+ (power), 6 TD_1- (power), 7 TD_2+ (power), 8 TD_2- (power), 9 TDCT_2 (power), 10 TDCT_3 (power), 11 TD_3+ (power), 12 TD_3- (power), 13 TX_3- (power), 14 TX_3+ (power), 15 TXCT_3 (power), 16 TXCT_2 (power), 17 TX_2- (power), 18 TX_2+ (power), 19 TX_1- (power), 20 TX_1+ (power), 21 TXCT_1 (power), 22 TXCT_0 (power), 23 TX_0- (power), 24 TX_0+ (power)

## U_HCPL062N
designator U?, comment HCPL062N  (value not drawn)
Optocoupler Logic-Out Open Collector DC-IN 2-CH 8-Pin SOIC N Tube; Manufacturer: ON Semiconductor / Fairchild; Rise Time: 90ns; Data Rate: 10Mbps; Output Current per Channel: 15mA; Forward Current: 50mA; Max Power Dissipation: 85mW; Number of Channels: 2; Fall Time: 75ns; Input Type: DC; Forward Voltage: 1.75V; Isolation Voltage: 2.5kV; Direction: Unidirectional; Reverse Breakdown Voltage: 5V; Max Output Voltage: 7V; Value: HCPL062N; Mounting Technology: Surface Mount; Case/Package: SOIC; Pins: 8; Weight: 0.252g; Min Operating Temperature: -40°C; Max Operating Temperature: 85°C; Packaging: Rail/Tube; Package Quantity: 3000; Series: -; Propagation Delay: 90ns; Turn-On Delay Time: 90ns; Output Current: 15mA; Number of Elements: 2; Power Dissipation: 85mW; Input Current: 15mA; Max Input Current: 50mA; Isolation Voltage-Max: 2.5kV; Reverse Voltage (DC): 5V; Length: 5.13mm; Width: 4.16mm; Height: 3.63mm; Radiation Hardening: No; Lead Free: Lead Free; RoHS Compliant: Yes; Reach SVHC Compliant: No; ComponentLink1URL: https://datasheet.ciiva.com/15119/getdatasheetpartid-489581-15119931.pdf?src-supplier=Verical; ComponentLink1Description: https://datasheet.ciiva.com/15119/getdatasheetpartid-489581-15119931.pdf?src-supplier=Verical; Supplier 1: Digikey; Supplier Part Number 1: HCPL062N-ND; Manufacturer Part Number: HCPL062N; RoHS: Yes; Category: Optocouplers; Stock 1: 1508; Pricing 1: 1=4,3, 50=3,039, 100=2,4891, 500=2,09834, 1000=1,92468, 2000=1,84509, 5000=1,80891 (USD)
footprint U_SOIC-8_LT6202IS8#PBF
pins: 1 A1 (power), 2 K1 (power), 3 K2 (power), 4 A2 (power), 5 GND (power), 6 VO2 (power), 7 VO1 (power), 8 VCC (power)

## U_HMHA2801
designator U?, comment HMHA2801  (value not drawn)
(Modificar) Integrado; Value: HMHA2801
pins: 1 A, 2 K, 3 E, 4 C

## U_INA217
designator U?, comment INA217
(Modificar) Integrado; Value: INA217
pins: 1 NC, 2 RG1, 4 VIN- (in), 5 VIN+ (in), 7 V- (power), 10 REF, 11 VOUT (out), 13 V+ (power), 15 RG2

## U_IS62WV10248
designator U?, comment IS62WV10248
(Modificar) Integrado; Value: IS62WV10248
pins: 1 A4, 2 A3, 3 A2, 4 A1, 5 A0, 6 ~{CS1}, 7 NC, 8 NC, 9 I/O0, 10 I/O1, 11 VDD, 12 GND, 13 I/O2, 14 I/O3, 15 NC, 16 NC, 17 ~{WE}, 18 A19, 19 A18, 20 A17, 21 A16, 22 A15, 23 A14, 24 A13, 25 A12, 26 A11, 27 A10, 28 A9, 29 NC, 30 NC, 31 I/O4, 32 I/O5, 33 VDD, 34 GND, 35 I/O6, 36 I/O7, 37 NC, 38 NC, 39 A8, 40 CS2, 41 ~{OE}, 42 A7, 43 A6, 44 A5

## U_ISO1050
designator U?, comment ISO1050  (value not drawn)
ISO1050 Isolated 5-V Can Transce; Manufacturer: Rochester Electronics; Manufacturer Part Number: ISO1050DUBR; Value: ISO1050; ComponentLink1URL: https://datasheet.octopart.com/ISO1050DUBR-Texas-Instruments-datasheet-11544934.pdf?src-supplier=Arrow+Electronics; ComponentLink1Description: https://datasheet.octopart.com/ISO1050DUBR-Texas-Instruments-datasheet-11544934.pdf?src-supplier=Arrow+Electronics; ComponentLink2URL: https://datasheet.octopart.com/ISO1050DUBR-Texas-Instruments-datasheet-36993154.pdf?src-supplier=Farnell; ComponentLink2Description: https://datasheet.octopart.com/ISO1050DUBR-Texas-Instruments-datasheet-36993154.pdf?src-supplier=Farnell; ComponentLink3URL: https://datasheet.octopart.com/ISO1050DUBR-Texas-Instruments-datasheet-44217068.pdf?src-supplier=Newark; ComponentLink3Description: https://datasheet.octopart.com/ISO1050DUBR-Texas-Instruments-datasheet-44217068.pdf?src-supplier=Newark; ComponentLink4URL: https://datasheet.octopart.com/ISO1050DUBR-Texas-Instruments-datasheet-21220502.pdf?src-supplier=Element14; ComponentLink4Description: https://datasheet.octopart.com/ISO1050DUBR-Texas-Instruments-datasheet-21220502.pdf?src-supplier=Element14; ComponentLink5URL: https://datasheet.octopart.com/ISO1050DUBR-Texas-Instruments-datasheet-140571443.pdf?src-supplier=Arrow.cn; ComponentLink5Description: https://datasheet.octopart.com/ISO1050DUBR-Texas-Instruments-datasheet-140571443.pdf?src-supplier=Arrow.cn; ComponentLink6URL: https://datasheet.octopart.com/ISO1050DUBR-Texas-Instruments-datasheet-16054226.pdf?src-supplier=Texas+Instruments; ComponentLink6Description: https://datasheet.octopart.com/ISO1050DUBR-Texas-Instruments-datasheet-16054226.pdf?src-supplier=Texas+Instruments; ComponentLink7URL: https://datasheet.octopart.com/ISO1050DUBR-Texas-Instruments-datasheet-159115071.pdf?src-supplier=LCSC; ComponentLink7Description: https://datasheet.octopart.com/ISO1050DUBR-Texas-Instruments-datasheet-159115071.pdf?src-supplier=LCSC; Supplier 1: Mouser; Supplier Part Number 1: 595-ISO1050DUBR; RoHS: No; Stock 1: 22938; Pricing 1: 1=3,35, 10=2,89, 50=2,89, 100=2,54, 1000=2,18, 10000=1,75 (USD)
footprint U_SOP-8
pins: 1 VCC1 (power), 2 RXD (out), 3 TXD (in), 4 GND1 (power), 5 GND2 (power), 6 CANL (io), 7 CANH (io), 8 VCC2 (power)

## U_ISO7141
designator U?, comment ISO7141CCDBQR
Quad-channel, 3/1, 50-Mbps digital isolator 16-SSOP -40 to 125; Manufacturer: Texas Instruments; Propagation Delay: 35ns; Min Supply Voltage: 2.7V; Max Supply Voltage: 5V; Max Power Dissipation: 150mW; Number of Channels: 4; Data Rate: 50Mbps; Channel Type: Unidirectional; Isolated Power: No; Pulse Width Distortion (PWD): 3ns; Turn-On Delay Time: 23ns; Supply Current: 14mA; Case/Package: SSOP; Pins: 16; Min Operating Temperature: -40°C; Max Operating Temperature: 125°C; Packaging: Tape and Reel; Package Quantity: 2500; Power Dissipation: 150mW; Type: General Purpose; Series: -; Radiation Hardening: No; Lead Free: Lead Free; RoHS Compliant: Yes; ComponentLink1URL: https://datasheet.ciiva.com/29891/iso7131cc-29891795.pdf?src-supplier=Avnet; ComponentLink1Description: https://datasheet.ciiva.com/29891/iso7131cc-29891795.pdf?src-supplier=Avnet; ComponentLink2URL: https://datasheet.ciiva.com/18617/iso7131cc-18617210.pdf?src-supplier=Digikey; ComponentLink2Description: https://datasheet.ciiva.com/18617/iso7131cc-18617210.pdf?src-supplier=Digikey; Supplier 1: Mouser; Supplier Part Number 1: 595-ISO7141CCDBQR; Manufacturer Part Number: ISO7141CCDBQR; RoHS: Yes; Category: Interface ICs; Stock 1: 11385; Pricing 1: 1=5,66, 10=4,81, 50=4,81, 100=4,17, 1000=3, 10000=2,84 (USD); Value: ISO7141CCDBQR
footprint U_SSOP-16
pins: 1 VCC1 (power), 2 GND1 (power), 3 INA (in), 4 INB (in), 5 INC (in), 6 OUTD (out), 7 EN1 (in), 8 GND1 (power), 9 GND2 (power), 10 EN2 (in), 11 IND (in), 12 OUTC (out), 13 OUTB (power), 14 OUTA (out), 15 GND2 (in), 16 VCC2 (in)

## U_KA78R08
designator U?, comment KA78R08
(Modificar) Integrado; Value: KA78R08
pins: 1 IN (power), 2 OUT (power), 3 GND (power), 4 EN (power)

## U_KA78R08_Vertical
designator U?, comment KA78R08_Vertical
(Modificar) Integrado; Value: KA78R08_Vertical
pins: 1 IN (power), 2 OUT (power), 3 GND (power), 4 EN (power)

## U_LAN8720A-CP
designator U*, comment LAN8720A-CP-TR
LAN8720A Series 3.6 V Small Footprint RMII 10/100 Ethernet Transceiver - SQFN-24; Manufacturer: Microchip; Manufacturer Part Number: LAN8720A-CP-TR-ABC; Simplex/Duplex: Full Duplex; Mounting Technology: Surface Mount; Min Operating Temperature: 0°C; Max Operating Temperature: 85°C; Packaging: Tape and Reel; Series: -; ComponentLink1URL: http://www.microchip.com/mymicrochip/filehandler.aspx?ddocname=en562076&src-supplier=Digikey; ComponentLink1Description: http://www.microchip.com/mymicrochip/filehandler.aspx?ddocname=en562076&src-supplier=Digikey; ComponentLink2URL: http://www.microchip.com/mymicrochip/filehandler.aspx?ddocname=en586588&src-supplier=Digikey; ComponentLink2Description: http://www.microchip.com/mymicrochip/filehandler.aspx?ddocname=en586588&src-supplier=Digikey; Supplier 1: Mouser; Supplier Part Number 1: 579-LAN8720ACPTRABC; RoHS: No; Category: Ethernet Interface ICs; Stock 1: 26326; Pricing 1: 1=1,29, 10=1,29, 50=1,07, 100=1,04, 1000=1,04, 10000=1,04 (USD); Value: LAN8720A-CP-TR
footprint U_QFN-MJ24 (QFN, 24-Leads, Body 4x4mm, Pitch 0.5mm, Microchip Recommended)
pins: 1 VDD2A (power), 2 LED2/~{INTSEL} (io), 3 LED1/REGOFF (io), 4 XTAL2 (io), 5 XTAL1/CLKLN (io), 6 VDDCR (io), 7 RXD1/MODE1 (io), 8 RXD0/MODE0 (io), 9 VDDIO (power), 10 RXER/PHYADO (io), 11 CRS_DV/MODE2 (io), 12 MDIO (io), 13 MDC (io), 14 ~{INT}/REFCLKO (in), 15 ~{RST} (in), 16 TXEN (in), 17 TXD0 (out), 18 TXD1 (out), 19 VDD1A (power), 20 TXN (out), 21 TXP (out), 22 RXN (in), 23 RXP (in), 24 RBIAS, 25 VSS (power)

## U_LD1086DT33-TR
designator U?, comment LD1086DT33-TR
IC REG LDO 3.3V 1.5A DPAK; Manufacturer: STMicroelectronics; Manufacturer Part Number: LD1086DT33TR; Number of Outputs: 1; Max Supply Voltage: 30V; Dropout Voltage: 1.3V; Polarity: Positive; Quiescent Current: 10mA; Accuracy: 1%; Output Type: Fixed; Min Input Voltage: 6.3V; Input Bias Current: 5mA; Mounting Technology: Surface Mount; Case/Package: TO-252; Pins: 3; Min Operating Temperature: -40°C; Max Operating Temperature: 125°C; Output Voltage: 3.3V; Packaging: Cut Tape; Max Output current: 1.5A; Output Current: 1.5A; Package Quantity: 1; Series: -; Nominal Output Voltage: 3.3V; Number of Regulators: 1; Min Output Voltage: 3.3V; Length: 6.6mm; Width: 6.2mm; Height: 2.4mm; Radiation Hardening: No; Reach SVHC Compliant: No; Lead Free: Lead Free; RoHS Compliant: Yes; ComponentLink1URL: https://datasheet.ciiva.com/1511/1880971-1511550.pdf?src-supplier=Element14; ComponentLink1Description: https://datasheet.ciiva.com/1511/1880971-1511550.pdf?src-supplier=Element14; ComponentLink2URL: https://datasheet.ciiva.com/1511/1880971-1511549.pdf?src-supplier=Element14; ComponentLink2Description: https://datasheet.ciiva.com/1511/1880971-1511549.pdf?src-supplier=Element14; ComponentLink3URL: https://datasheet.ciiva.com/2043/cd00001884-2043961.pdf?src-supplier=Digikey; ComponentLink3Description: https://datasheet.ciiva.com/2043/cd00001884-2043961.pdf?src-supplier=Digikey; ComponentLink4URL: https://datasheet.ciiva.com/2043/cd00001884-2043960.pdf?src-supplier=Digikey; ComponentLink4Description: https://datasheet.ciiva.com/2043/cd00001884-2043960.pdf?src-supplier=Digikey; ComponentLink5URL: https://datasheet.ciiva.com/2043/cd00001884-2043962.pdf?src-supplier=Digikey; ComponentLink5Description: https://datasheet.ciiva.com/2043/cd00001884-2043962.pdf?src-supplier=Digikey; ComponentLink6URL: https://datasheet.ciiva.com/3225/cd00001884-3225081.pdf?src-supplier=Avnet; ComponentLink6Description: https://datasheet.ciiva.com/3225/cd00001884-3225081.pdf?src-supplier=Avnet; ComponentLink7URL: https://datasheet.ciiva.com/16496/cd00001884-16496030.pdf?src-supplier=Future+Electronics; ComponentLink7Description: https://datasheet.ciiva.com/16496/cd00001884-16496030.pdf?src-supplier=Future+Electronics; Supplier 1: Mouser; Supplier Part Number 1: 511-LD1086DT33-TR; RoHS: Yes; Category: Voltage Regulators - Linear; Stock 1: 21426; Pricing 1: 1=1,58, 10=1,42, 50=1,34, 100=1,1, 1000=0,722, 10000=0,636 (USD); Value: LD1086DT33-TR
footprint U_SMD_TO-252
pins: 1 GND/ADJ (power), 2 VOUT (out), 3 VIN (in)

## U_LDL1117
designator U?, comment LDL1117S25R
LDL1117 Series 1.2 A 2.5 V High PSRR LDO Linear Voltage Regulator-SOT-223; Manufacturer: STMicroelectronics; Output Type: Fixed; Output Configuration: Positive; Number of Regulators: 1; Max Supply Voltage: 18V; Min Output Voltage: 2.5V; Output Current: 1.2A; Quiescent Current: 500uA; Power Supply Rejection Ratio (PSRR): 65dB; Accuracy: 2%; Min Supply Voltage: 2.6V; Nominal Supply Current: 250uA; Number of Channels: 1NUMBER; Mounting Technology: Surface Mount; Case/Package: TO-261-4; Min Operating Temperature: -40°C; Max Operating Temperature: 125°C; Packaging: Cut Tape; Series: -; Number of Outputs: 1NUMBER; Output Voltage: 2.5V; Height: 1.8mm; RoHS Compliant: Yes; ComponentLink1URL: http://www.farnell.com/datasheets/2342741.pdf?src-supplier=Farnell; ComponentLink1Description: http://www.farnell.com/datasheets/2342741.pdf?src-supplier=Farnell; ComponentLink2URL: http://www.st.com/content/ccc/resource/technical/document/datasheet/group3/0e/5a/00/ca/10/1a/4f/a5/DM00366442/files/DM00366442.pdf/jcr:content/translations/en.DM00366442.pdf?src-supplier=Digikey; ComponentLink2Description: http://www.st.com/content/ccc/resource/technical/document/datasheet/group3/0e/5a/00/ca/10/1a/4f/a5/DM00366442/files/DM00366442.pdf/jcr:content/translations/en.DM00366442.pdf?src-supplier=Digikey; ComponentLink3URL: https://datasheet.octopart.com/LDL1117S25R-STMicroelectronics-datasheet-165583407.pdf?src-supplier=TME; ComponentLink3Description: https://datasheet.octopart.com/LDL1117S25R-STMicroelectronics-datasheet-165583407.pdf?src-supplier=TME; Supplier 1: Mouser; Supplier Part Number 1: 511-LDL1117S25R; Manufacturer Part Number: LDL1117S25R; RoHS: Yes; Category: Voltage Regulators - Linear; Stock 1: 10345; Pricing 1: 1=1,1, 10=0,98, 50=0,935, 100=0,757, 1000=0,478, 10000=0,415 (USD); Value: LDL1117S25R
footprint U_SOT-223
pins: 1 GND (power), 2 VOUT (out), 3 VIN (in), 4 PAD

## U_LM35DZ
designator U?, comment LM35DZ
(Modificar) Integrado; Value: LM35DZ
pins: 1 VDD, 2 OUT, 3 GND

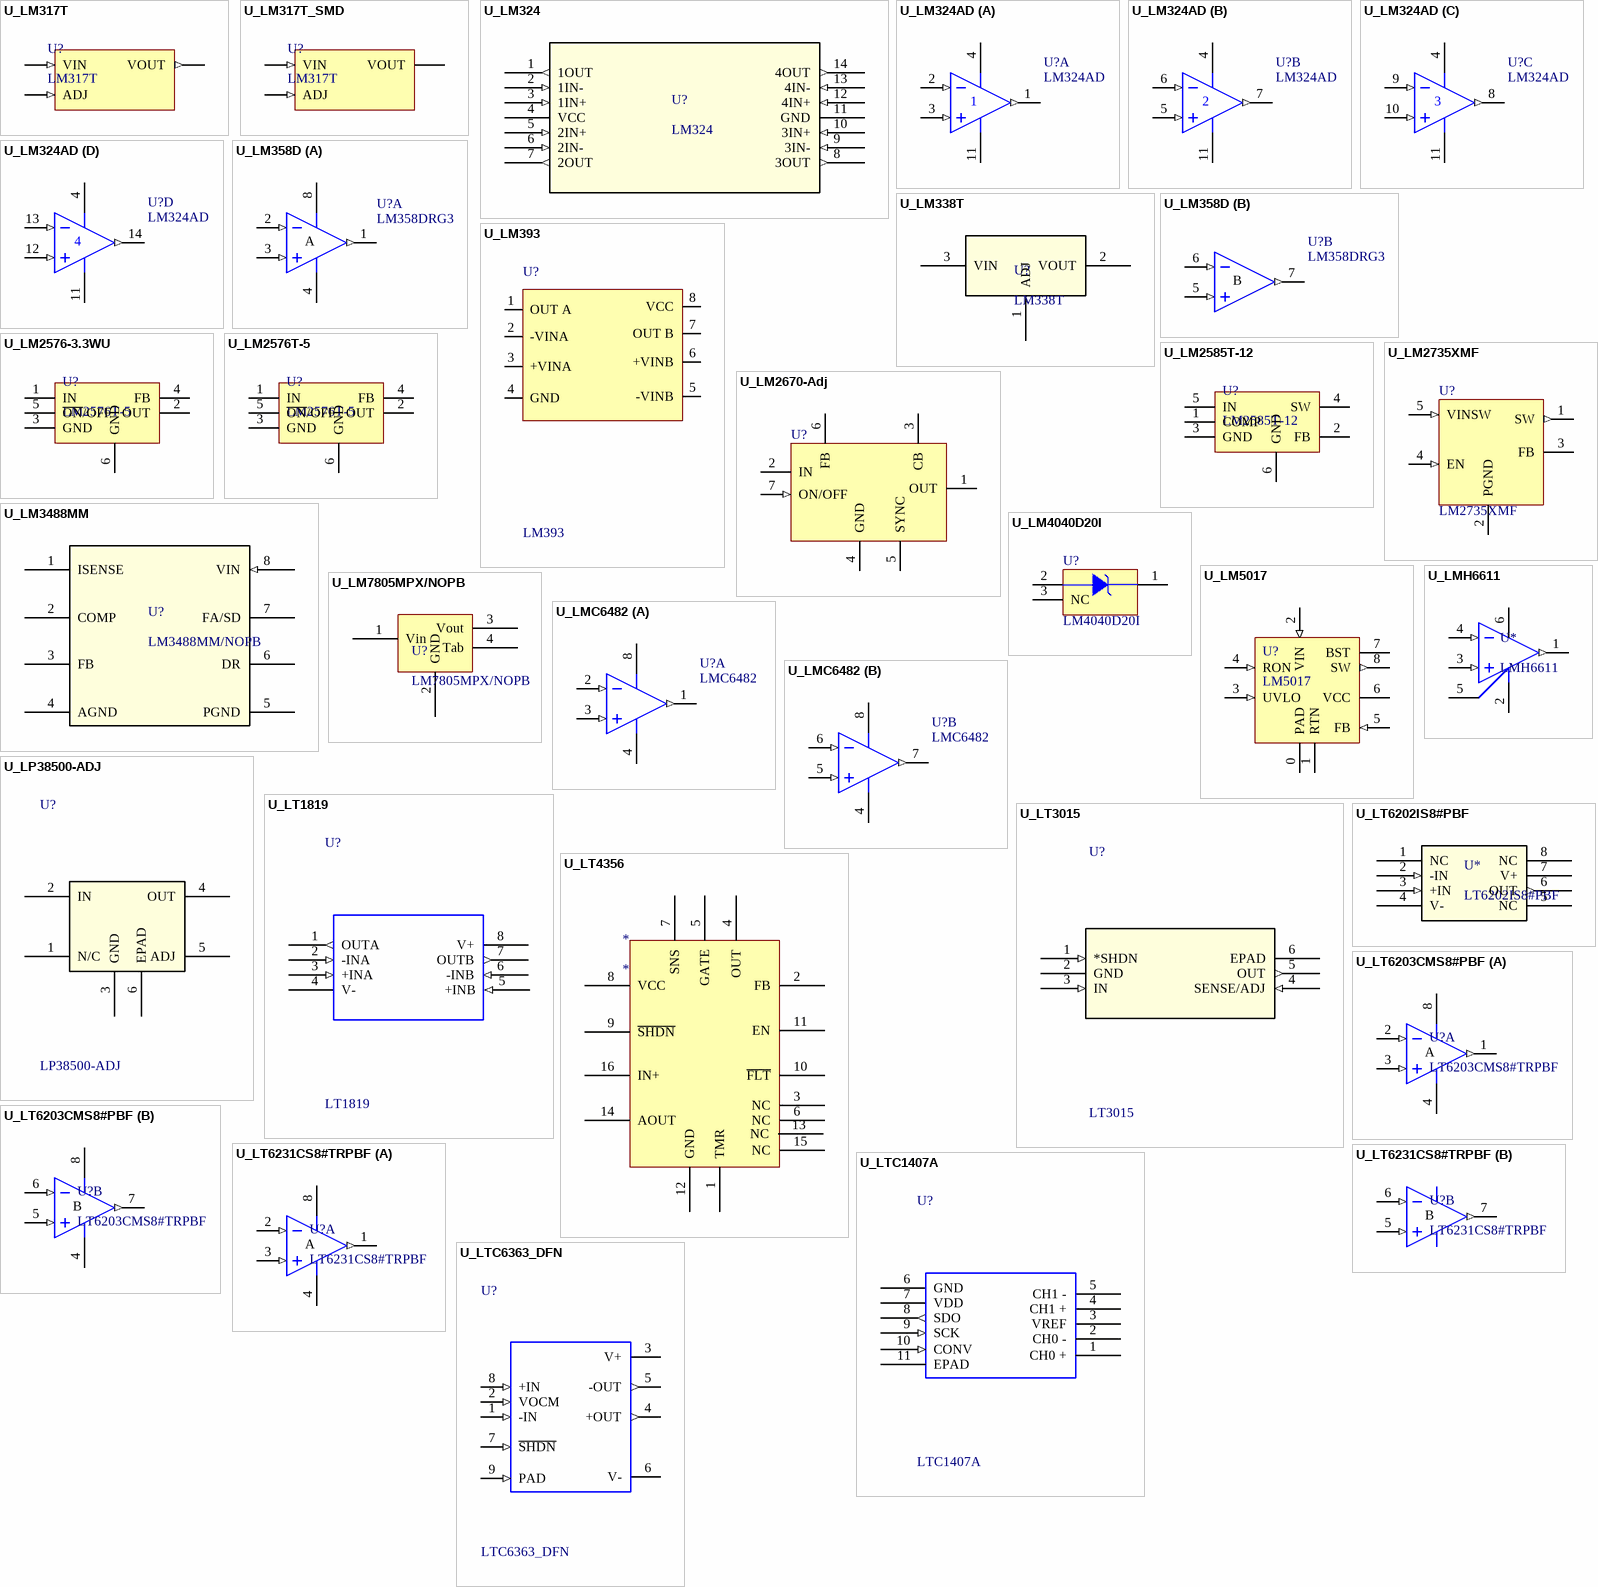
[diagram p13: symbols U_LM317T to U_LTC6363_DFN]

## U_LM317T
designator U?, comment LM317T
Value: LM317T
footprint U_THT_TO-220AB
pins: 1 ADJ (in), 2 VOUT (out), 3 VIN (in)

## U_LM317T_SMD
designator U?, comment LM317T
Linear Voltage Regulator IC Positive Adjustable 1 Output 1.2 V ~ 37 V 500mA DPAK-3; Manufacturer: ON Semiconductor; Manufacturer Part Number: LM317MDTRKG; Number of Outputs: 1; Output Voltage: 37V; Max Output current: 250mA; Max Supply Voltage: 40V; Dropout Voltage: 2.1V; Min Input Voltage: 4.2V; Min Output Voltage: 1.2V; Reference Voltage: 1.3V; Output Voltage Accuracy: 4%; Power Supply Rejection Ratio (PSRR): 65dB; Quiescent Current: 10mA; Value: LM317T; Mounting Technology: Surface Mount; Case/Package: DPAK; Pins: 3; Min Operating Temperature: 0°C; Max Operating Temperature: 125°C; Package Quantity: 2500; Packaging: Tape and Reel; Output Current: 500mA; Polarity: Positive; Number of Regulators: 1; Max Output Voltage: 37V; Accuracy: 4%; Output Type: Adjustable; Series: -; Output Configuration: Positive; Length: 6.73mm; Width: 6.22mm; Height: 2.38mm; Radiation Hardening: No; Reach SVHC Compliant: No; Lead Free: Lead Free; Halogen Free: Halogen Free; RoHS Compliant: Yes; ComponentLink1URL: https://datasheet.ciiva.com/15111/getdatasheetpartid-91881-15111619.pdf?src-supplier=Verical; ComponentLink1Description: https://datasheet.ciiva.com/15111/getdatasheetpartid-91881-15111619.pdf?src-supplier=Verical; ComponentLink2URL: https://datasheet.ciiva.com/2042/lm317m-d-2042285.pdf?src-supplier=Digikey; ComponentLink2Description: https://datasheet.ciiva.com/2042/lm317m-d-2042285.pdf?src-supplier=Digikey; ComponentLink3URL: https://datasheet.ciiva.com/2042/lm317m-d-2042286.pdf?src-supplier=Digikey; ComponentLink3Description: https://datasheet.ciiva.com/2042/lm317m-d-2042286.pdf?src-supplier=Digikey; ComponentLink4URL: https://datasheet.ciiva.com/2042/lm317m-d-2042287.pdf?src-supplier=Digikey; ComponentLink4Description: https://datasheet.ciiva.com/2042/lm317m-d-2042287.pdf?src-supplier=Digikey; ComponentLink5URL: https://datasheet.ciiva.com/1511/lm317m-d-1511826.pdf?src-supplier=Element14; ComponentLink5Description: https://datasheet.ciiva.com/1511/lm317m-d-1511826.pdf?src-supplier=Element14; ComponentLink6URL: https://datasheet.ciiva.com/1511/lm317m-d-1511827.pdf?src-supplier=Element14; ComponentLink6Description: https://datasheet.ciiva.com/1511/lm317m-d-1511827.pdf?src-supplier=Element14; Supplier 1: Digikey; Supplier Part Number 1: LM317MDTRKGOSCT-ND; RoHS: Yes; Category: Voltage Regulators - Linear; Stock 1: 1490; Pricing 1: 1=0,6, 10=0,511, 25=0,4772, 100=0,3545, 250=0,29996, 500=0,28634, 1000=0,21134 (USD)
footprint U_SMD_TO-252
pins: 1 ADJ (in), 2 VOUT (power), 3 VIN (in)

## U_LM324
designator U?, comment LM324
(Modificar) Integrado; Value: LM324
pins: 1 1OUT (out), 2 1IN- (in), 3 1IN+ (in), 4 VCC (power), 5 2IN+ (in), 6 2IN- (in), 7 2OUT (out), 8 3OUT (out), 9 3IN- (in), 10 3IN+ (in), 11 GND (power), 12 4IN+ (in), 13 4IN- (in), 14 4OUT (out)

## U_LM324AD
designator U?, comment LM324AD
(Modificar) Integrado; Value: LM324AD
pins on every part: 4 V+ (power), 11 V- (power)
part A pins: 1 OUT (out), 2 IN- (in), 3 IN+ (in)
part B pins: 5 IN+ (in), 6 IN- (in), 7 OUT (out)
part C pins: 8 OUT (out), 9 IN- (in), 10 IN+ (in)
part D pins: 12 IN+ (in), 13 IN- (in), 14 OUT (out)

## U_LM338T
designator U?, comment LM338T
(Modificar) Integrado; Value: LM338T
pins: 1 ADJ, 2 VOUT, 3 VIN